# EAGLE library part MAX5035 (library eScooter)
The MAX5035 easy-to-use, high-efficiency, high-volt-age, step-down DC-DC converter operates from aninput voltage up to 76V and consumes only 270μA qui-escent current at no load.
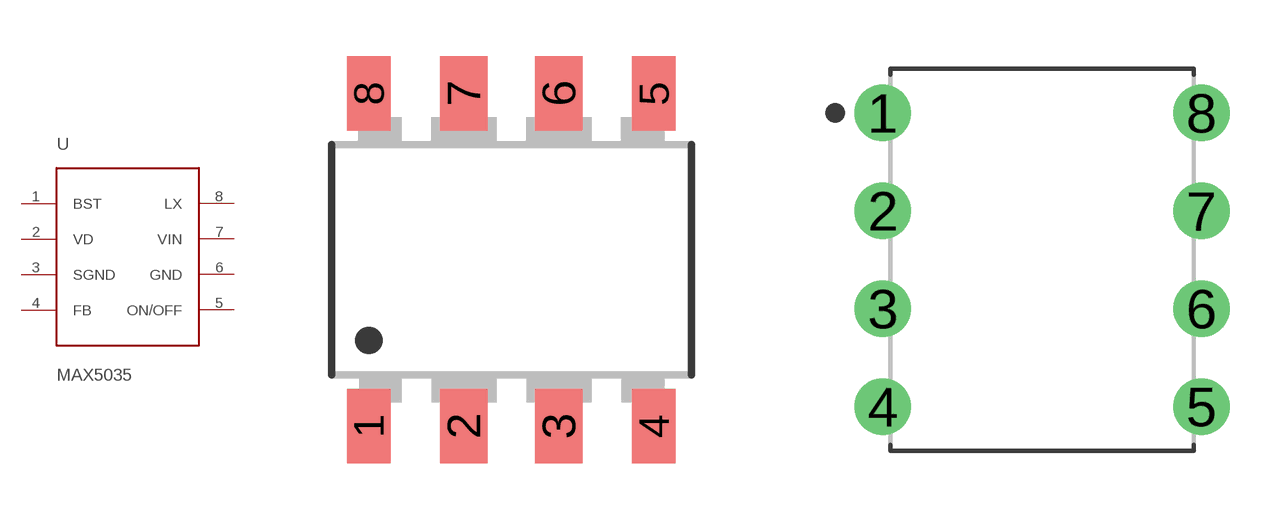
[diagram p0: symbol with the pads of DIP8; footprints DIP8, DIP826W56P254L937H458Q8B]

Designator prefix -

## MAX5035DIP8  [DIP8]
1  BST  in
2  VD  in
3  SGND  in
4  FB  in
5  ON/OFF  in
6  GND  pwr
7  VIN  pwr
8  LX  pwr

## MAX5035PDIP8  [DIP826W56P254L937H458Q8B]
Pads as for DIP8

## Footprint DIP8 (pad centres in mm)
SMD DIL08 Gull Wing Surface Mount Optioon 300 Source: http://www.avagotech.com/docs/AV02-0410EN
smd 1.16 x 2: 1 -3.81,-4.45; 4 3.81,-4.45; 5 3.81,4.45; 8 -3.81,4.45
smd 1.27 x 2: 2 -1.27,-4.45; 3 1.27,-4.45; 6 1.27,4.45; 7 -1.27,4.45

## Footprint DIP826W56P254L937H458Q8B (pad centres in mm)
8-DIP, 2.54 mm (0.10 in) pitch, 8.26 mm (0.33 in) span, 9.38 X 6.99 X 4.58 mm body 8-pin DIP package with 2.54 mm (0.10 in) pitch, 8.26 mm (0.33 in) span with body size 9.38 X 6.99 X 4.58 mm
drill 0.866 pad 1.466: 1 -4.13,3.81; 2 -4.13,1.27; 3 -4.13,-1.27; 4 -4.13,-3.81; 5 4.13,-3.81; 6 4.13,-1.27; 7 4.13,1.27; 8 4.13,3.81